# Altium footprint library R-785.0-1.0.PcbLib: 1 footprints
Each footprint in its own frame and in the unit in brackets; x right, y up, seen from the top. Pads: shape width x height; smd on the part's side, far side on the other; paste and mask are expansions set on the pad; w line width, h text height; cw(c..) or ccw(c..) is an arc to the next point about the centre after c.
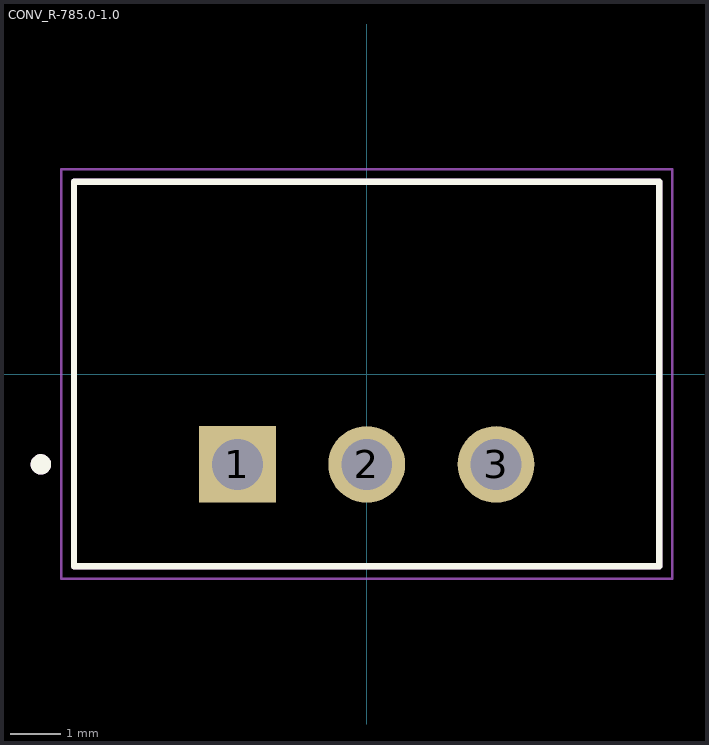
[diagram p0: the footprint, top view; thin cyan lines are the x and y axes]

## CONV_R-785.0-1.0 [mm]
pads (3):
  rect 1.508x1.508 hole 1: 1(-2.54,-1.775)
  round 1.508 hole 1: 2(0,-1.775) 3(2.54,-1.775)
Top Overlay:
  circle w0.2: c-6.4,-1.775 r0.1
  lines w0.127: -5.75,-3.775 5.75,-3.775 5.75,3.775 -5.75,3.775 -5.75,-3.775
Mechanical 13:
  circle w0.2: c-6.4,-1.775 r0.1
  lines w0.127: -5.75,-3.775 5.75,-3.775 5.75,3.775 -5.75,3.775 -5.75,-3.775
Mechanical 15:
  lines w0.05: -6,-4.025 6,-4.025 6,4.025 -6,4.025 -6,-4.025
3D body "step_temp.STEP": height 14.3, standoff 0, extent -3.8,-5.75 3.8,5.75